# Altium footprint library SMD_JMP_0805.PcbLib: 1 footprints
Each footprint in its own frame and in the unit in brackets; x right, y up, seen from the top. Pads: shape width x height; smd on the part's side, far side on the other; paste and mask are expansions set on the pad; w line width, h text height; cw(c..) or ccw(c..) is an arc to the next point about the centre after c.
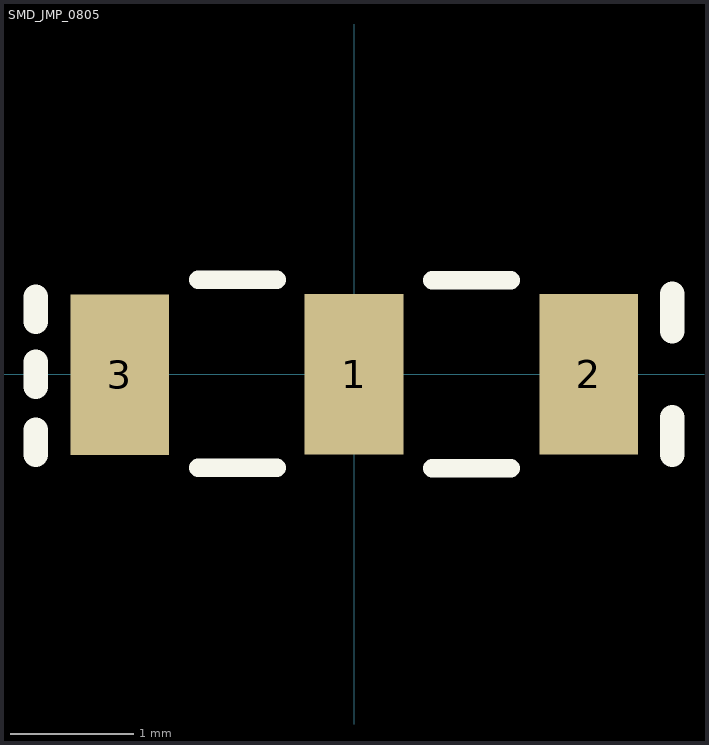
[diagram p0: the footprint, top view; thin cyan lines are the x and y axes]

## SMD_JMP_0805 [mm]
pads (3):
  rect 0.8x1.3 smd: 1(0,0) 2(1.9,0) 3(-1.896,-0.005)
Top Overlay:
  lines w0.15: -1.261,-0.759 -0.626,-0.759 ; -1.261,0.765 -0.626,0.765 ; 0.635,-0.762 1.27,-0.762 ; 0.635,0.762 1.27,0.762
  lines w0.2: -2.575,-0.65 -2.575,-0.45 ; -2.575,-0.1 -2.575,0.1 ; -2.575,0.425 -2.575,0.625 ; 2.575,-0.65 2.575,-0.35 ; 2.575,0.35 2.575,0.65
3D body "SMD_RLC_0805.STEP": height 0.43, standoff -0.02, extent -0.046,-0.625 1.954,0.625